# EAGLE library part TPS63030DSKR (library CharIoT)
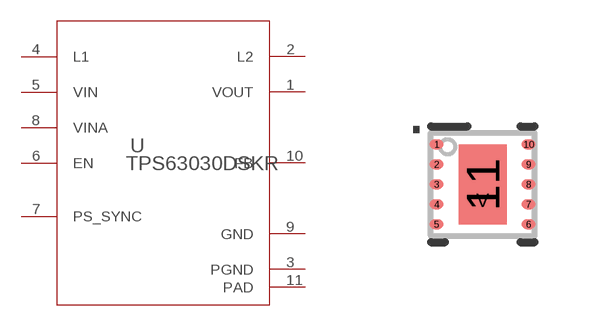
[diagram p3: symbol with the pads of DSK0010A; footprint DSK0010A]

Designator prefix U

## TPS63030DSKR (COMPTYPE: IC; MANUFACTURER: Texas Instruments; MOUNTTYPE: SMT; PACKAGEREFERENCE: DSK0010A; PARTNUMBER: TPS63030DSK; PIN_COUNT: 11; REFDES: RefDes; ROHS: Y; TYPE: TYPE; VALUE: Value)  [DSK0010A]
1  VOUT  pwr
2  L2  pas
3  PGND  pwr
4  L1  pas
5  VIN  pwr
6  EN  in
7  PS_SYNC  in
8  VINA  pwr
9  GND  pwr
10  FB  in
11  PAD  pwr

## Footprint DSK0010A (pad centres in mm)
smd 0.35 x 0.25: 1 -1.15,1; 2 -1.15,0.5; 3 -1.15,0; 4 -1.15,-0.5; 5 -1.15,-1; 6 1.15,-1; 7 1.15,-0.5; 8 1.15,0; 9 1.15,0.5; 10 1.15,1
smd 1.2 x 2: 11 0,0
smd 0.5 x 0.5: V 0,-0.394